# Altium schematic symbol library microusb.SchLib: 1 symbol
Pins are listed as number, name and electrical type; pins without a type are passive.

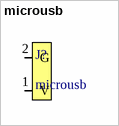
[diagram p0: symbol microusb]

## microusb
designator J?
footprint microusb
pins: 1 V, 2 G